# EAGLE library part MSP-CAN_BLOCK (library template_board)
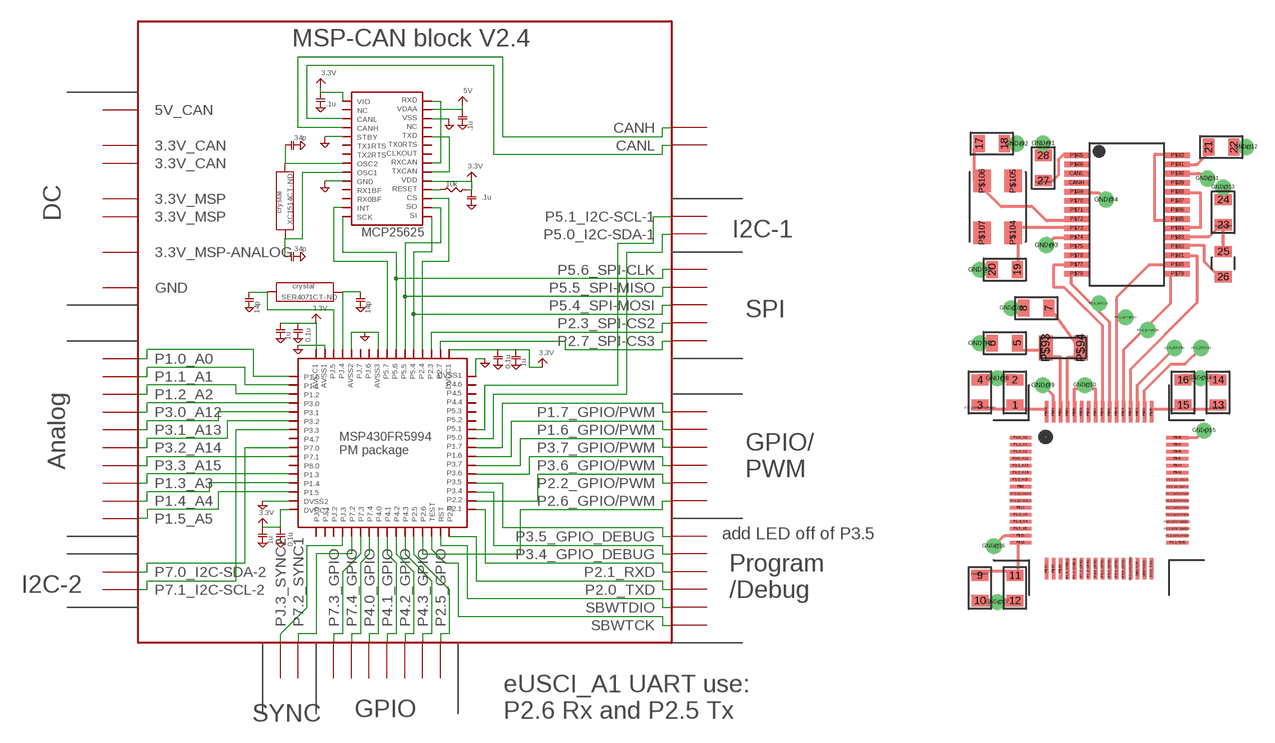
[diagram p9: symbol with the pads of MSP-CAN_BLOCK; footprint MSP-CAN_BLOCK]

Designator prefix BLK

## MSP-CAN_BLOCK  [MSP-CAN_BLOCK]
3.3V@CAN1  3.3V_CAN
3.3V@CAN2  3.3V_CAN
3.3V@MSP1  3.3V_MSP
3.3V@MSP2  3.3V_MSP
3.3V_ANALOG@MSP2  3.3V_MSP-ANALOG
5V  5V_CAN
CANH  CANH
CANL  CANL
GND@1  GND
GND@2  GND
GND@3  GND
GND@4  GND
GND@5  GND
GND@7  GND
GND@8  GND
GND@9  GND
GND@10  GND
GND@11  GND
GND@12  GND
GND@13  GND
GND@14  GND
GND@15  GND
GND@16  GND
GND@17  GND
GND@26  GND
P1.0_A0  P1.0_A0
P1.1_A1  P1.1_A1
P1.2_A2  P1.2_A2
P1.3_A3  P1.3_A3
P1.4_A4  P1.4_A4
P1.5_A5  P1.5_A5
P1.6_GPIO/PWM  P1.6_GPIO/PWM
P1.7_GPIO/PWM  P1.7_GPIO/PWM
P2.0_TXD  P2.0_TXD
P2.1_RXD  P2.1_RXD
P2.2_GPIO/PWM  P2.2_GPIO/PWM
P2.4_SPI-CS2  P2.3_SPI-CS2
P2.5_GPIO  P2.5_GPIO
P2.6_GPIO/PWM  P2.6_GPIO/PWM
P2.7_SPI-CS3  P2.7_SPI-CS3
P3.0_A12  P3.0_A12
P3.1_A13  P3.1_A13
P3.2_A14  P3.2_A14
P3.3_A15  P3.3_A15
P3.4_GPIO_DEBUG  P3.4_GPIO_DEBUG
P3.5_GPIO_DEBUG  P3.5_GPIO_DEBUG
P3.6_GPIO/PWM  P3.6_GPIO/PWM
P3.7_GPIO/PWM  P3.7_GPIO/PWM
P4.0_GPIO  P4.0_GPIO
P4.1_GPIO  P4.1_GPIO
P4.2_GPIO  P4.2_GPIO
P4.3_GPIO  P4.3_GPIO
P5.0_I2C-SDA-1  P5.0_I2C-SDA-1
P5.1_I2C-SCL-1  P5.1_I2C-SCL-1
P5.4_SPI-MOSI  P5.4_SPI-MOSI
P5.5_SPI-MISO  P5.5_SPI-MISO
P5.6_SPI-CLK  P5.6_SPI-CLK
P7.0_I2C-SDA-2  P7.0_I2C-SDA-2
P7.1_I2C-SCL-2  P7.1_I2C-SCL-2
P7.2_SYNC1  P7.2_SYNC1
P7.3_GPIO  P7.3_GPIO
P7.4_GPIO  P7.4_GPIO
PJ.3_SYNC2  PJ.3_SYNC2
SBWTCK  SBWTCK
SBWTDIO  SBWTDIO

## Footprint MSP-CAN_BLOCK (pad centres in mm)
smd 1.2 x 0.8: 1 -6,6.08; 2 -6,7.88; 3 -8.5,6.08; 4 -8.5,7.88; 9 -8.5,-6.08; 10 -8.5,-7.88; 11 -6,-6.08; 12 -6,-7.88; 13 8.5,6.08; 14 8.5,7.88; 15 6,6.08; 16 6,7.88; 23 8.875,18.955; 24 8.875,20.755; 25 8.875,17.045; 26 8.875,15.245; 27 -3.975,22.105; 28 -3.975,23.905
smd 1 x 0.25: 3.3V@CAN1 -3.975,22.025; 3.3V@CAN2 8.875,18.875; 3.3V@MSP1 8.501,5.884; 3.3V@MSP2 -8.533,-5.962; 3.3V_ANALOG@MSP2 -8.482,5.904
smd 0.8 x 1.2: 5 -5.83,10.5; 6 -7.63,10.5; 7 -3.58,13; 8 -5.38,13; 17 -8.545,24.75; 18 -6.745,24.75; 19 -5.83,15.75; 20 -7.63,15.75; 21 7.83,24.5; 22 9.63,24.5
smd 0.25 x 1: 5V 7.65,24.5
smd 1.75 x 0.4: CANH -1.6,21.96; CANL -1.6,22.61; P$65 -1.6,23.91; P$66 -1.6,23.26; P$69 -1.6,21.31; P$70 -1.6,20.66; P$71 -1.6,20.01; P$72 -1.6,19.36; P$73 -1.6,18.71; P$74 -1.6,18.06; P$75 -1.6,17.41; P$76 -1.6,16.76; P$77 -1.6,16.11; P$78 -1.6,15.46; P$79 5.6,15.46; P$80 5.6,16.11; P$81 5.6,16.76; P$82 5.6,17.41; P$83 5.6,18.06; P$84 5.6,18.71; P$85 5.6,19.36; P$86 5.6,20.01; P$87 5.6,20.66; P$88 5.6,21.31; P$89 5.6,21.96; P$90 5.6,22.61; P$91 5.6,23.26; P$92 5.6,23.91
drill 0.61: GND@1 -3.975,24.775; GND@2 -5.875,24.75; GND@3 -3.75,17.5; GND@4 0.5,20.75; GND@5 -8.5,15.75; GND@7 -8.5,10.5; GND@8 -7.25,8; GND@9 -4,7.5; GND@10 -1,7.5; GND@11 7.75,22.25; GND@12 10.5,24.5; GND@13 8.875,21.625; GND@14 7.25,8; GND@15 7.5,4.25; GND@16 -7.5,-4; GND@17 -7.25,-8; GND@26 -6.25,13; P2.4_SPI-CS2 5.397,10.16; P2.7_SPI-CS3 7.303,10.16; P5.4_SPI-MOSI 3.487,11.434; P5.5_SPI-MISO 1.9,12.354; P5.6_SPI-CLK 0,13.348
smd 1.55 x 0.25: P1.0_A0 -5.6,3.75; P1.1_A1 -5.6,3.25; P1.2_A2 -5.6,2.75; P1.3_A3 -5.6,-1.75; P1.4_A4 -5.6,-2.25; P1.5_A5 -5.6,-2.75; P1.6_GPIO/PWM 5.6,-0.75; P1.7_GPIO/PWM 5.6,-0.25; P2.1_RXD 5.6,-3.75; P2.2_GPIO/PWM 5.6,-3.25; P3.0_A12 -5.6,2.25; P3.1_A13 -5.6,1.75; P3.2_A14 -5.6,1.25; P3.3_A15 -5.6,0.75; P3.4_GPIO_DEBUG 5.6,-2.75; P3.5_GPIO_DEBUG 5.6,-2.25; P3.6_GPIO/PWM 5.6,-1.75; P3.7_GPIO/PWM 5.6,-1.25; P5.0_I2C-SDA-1 5.6,0.25; P5.1_I2C-SCL-1 5.6,0.75; P7.0_I2C-SDA-2 -5.6,-0.25; P7.1_I2C-SCL-2 -5.6,-0.75; P$8 -5.6,0.25; P$11 -5.6,-1.25; P$15 -5.6,-3.25; P$16 -5.6,-3.75; P$43 5.6,1.25; P$44 5.6,1.75; P$45 5.6,2.25; P$46 5.6,2.75; P$47 5.6,3.25; P$48 5.6,3.75
smd 0.25 x 1.55: P2.0_TXD 3.75,-5.6; P2.5_GPIO 1.75,-5.6; P2.6_GPIO/PWM 2.25,-5.6; P4.0_GPIO -0.25,-5.6; P4.1_GPIO 0.25,-5.6; P4.2_GPIO 0.75,-5.6; P4.3_GPIO 1.25,-5.6; P7.2_SYNC1 -1.75,-5.6; P7.3_GPIO -1.25,-5.6; P7.4_GPIO -0.75,-5.6; P$17 -3.75,-5.6; P$18 -3.25,-5.6; P$19 -2.75,-5.6; P$49 3.75,5.6; P$50 3.25,5.6; P$51 2.75,5.6; P$52 2.25,5.6; P$53 1.75,5.6; P$54 1.25,5.6; P$55 0.75,5.6; P$56 0.25,5.6; P$57 -0.25,5.6; P$58 -0.75,5.6; P$59 -1.25,5.6; P$60 -1.75,5.6; P$61 -2.25,5.6; P$62 -2.75,5.6; P$63 -3.25,5.6; P$64 -3.75,5.6; PJ.3_SYNC2 -2.25,-5.6; SBWTCK 2.75,-5.6; SBWTDIO 3.25,-5.6
smd 1 x 1.8: P$93 -3.79,10.16; P$94 -1.29,10.16
smd 1.25 x 1.6: P$104 -6.13,18.38; P$105 -6.13,22.08; P$106 -8.33,22.08; P$107 -8.33,18.38